# Altium integrated library Infineon_Power_Smart_Low-Side_&_High-Side_Switches.IntLib: 238 symbols (part 11 of 14)
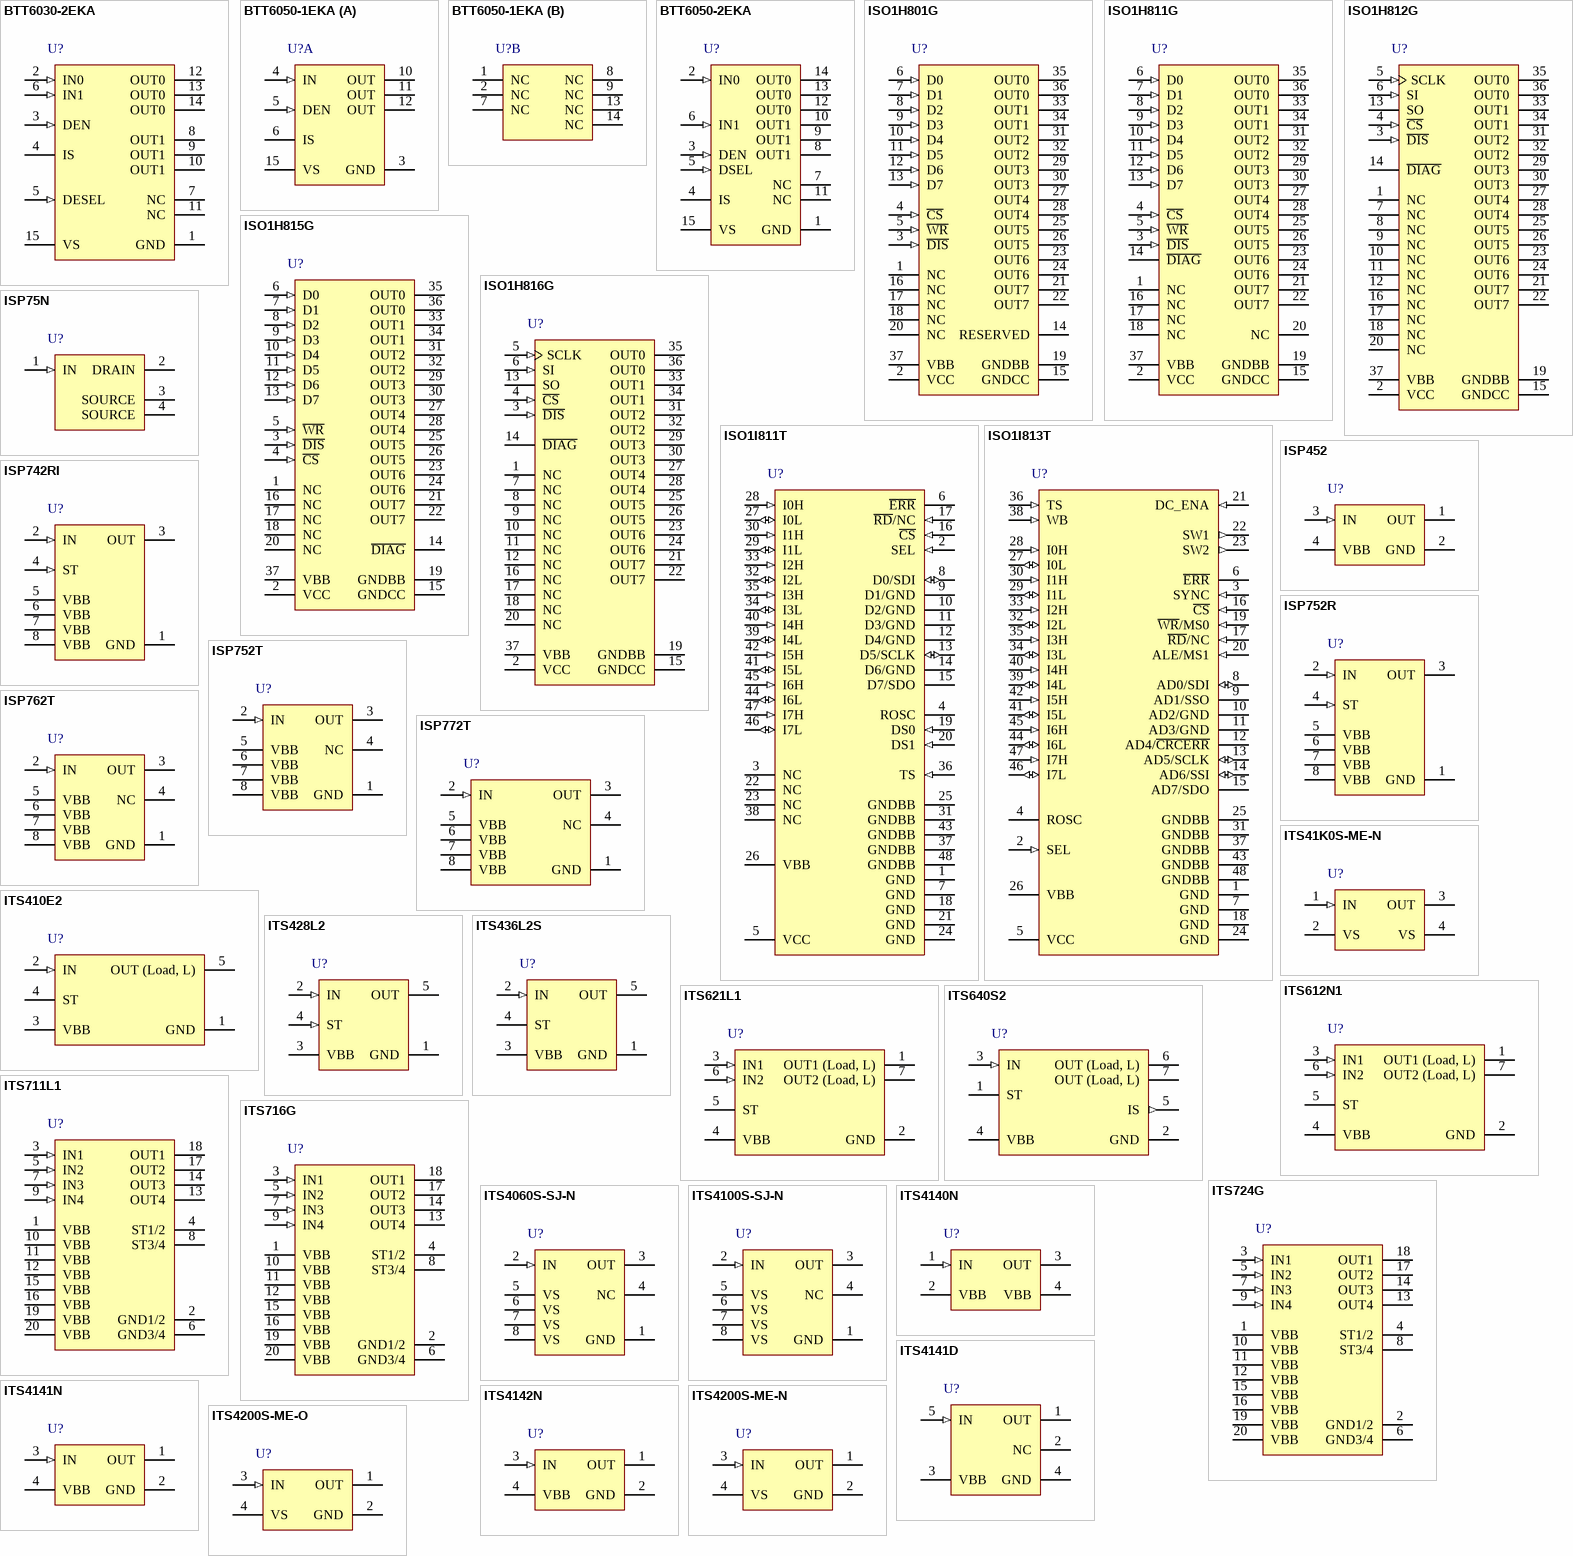
[diagram p17: symbols BTT6030-2EKA to ITS4200S-ME-O]

## ITS711L1
designator U?
Smart Four Channel HighSide Power Switch for Industrial Applications, 5 to 34 V Operating, -30 to 85 degC, PG-DSO-20-31, Reel, Green; Manufacturer: Infineon; PartNumber: ITS711L1; Channels: 4; Diagnostic: Digital; Green: TRUE; IL (nom)min - all channels active: 1.1 A; IL (nom)min - one channel active: 1.7 A; IL (SC): 75 A; Operating Voltage Range (max): 34 V; Operating Voltage Range (min): 5 V; Ptot (max): 3.6 W; RON (max) @ Tj max: 400 mOhm; RON @ 25 degC: 200 mOhm (max); toff (max): 400 us; DatasheetVersion: Rev. 1.3; PackageVersion: Jan-12; PackageReference: PG-DSO-20-31; PackageDescription: 20-Pin Plastic (Green) Dual Small Outline Package, 12.7 x 7.5 mm Body, 1.27 mm Pitch; Supplier 1: Mouser; Supplier Part Number 1: 726-ITS711L1; Supplier 2: Newark; Supplier Part Number 2: 58M7539; Supplier 3: Farnell; Supplier Part Number 3: 1426202RL; Supplier 4: Farnell; Supplier Part Number 4: 1426202; Supplier 5: Digi-Key; Supplier Part Number 5: ITS711L1TR-ND; Supplier 6: Digi-Key; Supplier Part Number 6: ITS711L1CT-ND; Supplier 7: Digi-Key; Supplier Part Number 7: ITS711L1DKR-ND; Halogen-free: available; IL (SCp): 75 A; Load Current (typ): 1.1 A; Packing: Reel; ton (max): 400 us; Mounting Technology: Surface Mount; ComponentLink1Description: Manufacturer URL; ComponentLink1URL: http://www.infineon.com/; ComponentLink2Description: Datasheet; ComponentLink2URL: http://www.infineon.com/dgdl/ITS711L1_DS13.pdf?folderId=db3a304314dca389011537739e37155f&fileId=db3a30432239cccd0122e560bae03c62; ComponentLink3Description: Package Specification; ComponentLink3URL: http://www.infineon.com/dgdl/BTS711L1_DS13.pdf?folderId=db3a304314dca389011537739e37155f&fileId=db3a30432239cccd0122e55f98d43c5f&sId=db3a30433d68e984013d81ad4c8d73f2
footprint INF-PG-DSO-20-31_N (SOP, 20-Leads, Body 12.7x7.5mm, Pitch 1.27mm, IPC High Density)
footprint INF-PG-DSO-20-31_L (SOP, 20-Leads, Body 12.7x7.5mm, Pitch 1.27mm, IPC High Density)
footprint INF-PG-DSO-20-31_M (SOP, 20-Leads, Body 12.7x7.5mm, Pitch 1.27mm, IPC Low Density)
pins: 1 VBB (power) "Positive power supply voltage.Design the wiring for the simultaneous max. short circuit currents from channel 1 to 4 and also for low thermal resistance", 2 GND1/2 (power) "Ground 1/2 of chip 1 (channel 1 and channel 2)", 3 IN1 (in) "Input 1,activates channel 1 in case of logic high signal", 4 ST1/2 (oc) "Diagnostic feedback 1/2 of channel 1 and channel 2, open drain,low on failure", 5 IN2 (in) "Input 2,activates channel 2 in case of logic high signal", 6 GND3/4 (power) "Ground 3/4 of chip 2 (channel 3 and channel 4)", 7 IN3 (in) "Input 3,activates channel 3 in case of logic high signal", 8 ST3/4 (oc) "Diagnostic feedback 3/4 of channel 3 and channel 4, open drain, low on failure", 9 IN4 (in) "Input 4,activates channel 4 in case of logic high signal", 10 VBB (power) "Positive power supply voltage.Design the wiring for the simultaneous max. short circuit currents from channel 1 to 4 and also for low thermal resistance", 11 VBB (power) "Positive power supply voltage.Design the wiring for the simultaneous max. short circuit currents from channel 1 to 4 and also for low thermal resistance", 12 VBB (power) "Positive power supply voltage.Design the wiring for the simultaneous max. short circuit currents from channel 1 to 4 and also for low thermal resistance", 13 OUT4 (power) "Output 4,protected high-side power output of channel 4. Design the wiring for the max. short circuit current", 14 OUT3 (power) "Output 3,protected high-side power output of channel 3. Design the wiring for the max. short circuit current", 15 VBB (power) "Positive power supply voltage.Design the wiring for the simultaneous max. short circuit currents from channel 1 to 4 and also for low thermal resistance", 16 VBB (power) "Positive power supply voltage.Design the wiring for the simultaneous max. short circuit currents from channel 1 to 4 and also for low thermal resistance", 17 OUT2 (power) "Output 2,protected high-side power output of channel 2. Design the wiring for the max. short circuit current", 18 OUT1 (power) "Output 1,protected high-side power output of channel 1. Design the wiring for the max. short circuit current", 19 VBB (power) "Positive power supply voltage.Design the wiring for the simultaneous max. short circuit currents from channel 1 to 4 and also for low thermal resistance", 20 VBB (power) "Positive power supply voltage.Design the wiring for the simultaneous max. short circuit currents from channel 1 to 4 and also for low thermal resistance"

## ITS716G
designator U?
Smart High-Side Power Switch for Industrial Applications 4 Channels: 4 x 140 mOhm Status Feedback, 5.5 to 40 V Operating, -30 to 85 degC, PG-DSO-20-32, Reel, Green; Manufacturer: Infineon; PartNumber: ITS716G; Channels: 4; Diagnostic: Digital; Green: TRUE; IL (nom)min - all channels active: 1.3 A; IL (nom)min - one channel active: 2.3 A; IL (SC): 9 A; Operating Voltage Range (max): 40 V; Operating Voltage Range (min): 5.5 V; Ptot (max): 3.6 W; RON (max) @ Tj max: 280 mOhm; RON @ 25 degC: 140 mOhm (max); toff (max): 270 us; ton (max): 250 us; DatasheetVersion: Rev. 1.1; PackageVersion: Mar-08; PackageReference: PG-DSO-20-32; PackageDescription: 20-Pin Plastic (Green) Dual Small Outline Package, 12.7 x 7.5 mm Body, 1.27 mm Pitch; Supplier 1: Mouser; Supplier Part Number 1: 726-ITS716G; Supplier 2: Newark; Supplier Part Number 2: 58M7540; Supplier 3: Farnell; Supplier Part Number 3: 1426203; Supplier 4: Farnell; Supplier Part Number 4: 1426203RL; Supplier 5: Digi-Key; Supplier Part Number 5: ITS716GTR-ND; Supplier 6: Digi-Key; Supplier Part Number 6: ITS716GCT-ND; Supplier 7: Digi-Key; Supplier Part Number 7: ITS716GDKR-ND; Halogen-free: available; IL (SCp): 9 A; Load Current (typ): 1.3 A; Packing: Reel; Mounting Technology: Surface Mount; ComponentLink1Description: Manufacturer URL; ComponentLink1URL: http://www.infineon.com/; ComponentLink2Description: Datasheet; ComponentLink2URL: http://www.infineon.com/dgdl/ITS716G_DS11_20081002.pdf?folderId=db3a304412b407950112b408e8c90004&fileId=db3a304412b407950112b428c2cf3e6d; ComponentLink3Description: Package Specification; ComponentLink3URL: http://www.infineon.com/dgdl/BTS+4130QGA_DS10+_neu.pdf?folderId=db3a304314dca389011537739e37155f&fileId=db3a30431a5c32f2011a957932285680&sId=db3a30433d68e984013d7f42d6576278
footprint INF-PG-DSO-20-32_N (SOP, 20-Leads, Body 12.7x7.5mm, Pitch 1.27mm, IPC Medium Density)
footprint INF-PG-DSO-20-32_L (SOP, 20-Leads, Body 12.7x7.5mm, Pitch 1.27mm, IPC High Density)
footprint INF-PG-DSO-20-32_M (SOP, 20-Leads, Body 12.7x7.5mm, Pitch 1.27mm, IPC Low Density)
pins: 1 VBB (power) "Positive power supply voltage. Design the wiring for the simultaneous max. short circuit currents from channel 1 to 2 and also for low thermal resistance", 2 GND1/2 (power) "Ground of chip 1 (channel 1,2)", 3 IN1 (in) "Input 1 activates channel 1 in case of logic high signal", 4 ST1/2 (oc) "Diagnostic feedback 1/2 of channel 1,2 open drain, low on failure", 5 IN2 (in) "Input 2 activates channel 2 in case of logic high signal", 6 GND3/4 (power) "Ground of chip 2 (channel 3,4)", 7 IN3 (in) "Input 3 activates channel 3 in case of logic high signal", 8 ST3/4 (oc) "Diagnostic feedback 3/4 of channel 3,4 open drain, low on failure", 9 IN4 (in) "Input 4 activates channel 4 in case of logic high signal", 10 VBB (power) "Positive power supply voltage. Design the wiring for the simultaneous max. short circuit currents from channel 1 to 2 and also for low thermal resistance", 11 VBB (power) "Positive power supply voltage. Design the wiring for the simultaneous max. short circuit currents from channel 1 to 2 and also for low thermal resistance", 12 VBB (power) "Positive power supply voltage. Design the wiring for the simultaneous max. short circuit currents from channel 1 to 2 and also for low thermal resistance", 13 OUT4 (power) "Output 4 protected high-side power output of channel 4. Design the wiring for the max. short circuit current", 14 OUT3 (power) "Output 3 protected high-side power output of channel 3. Design the wiring for the max. short circuit current", 15 VBB (power) "Positive power supply voltage. Design the wiring for the simultaneous max. short circuit currents from channel 1 to 2 and also for low thermal resistance", 16 VBB (power) "Positive power supply voltage. Design the wiring for the simultaneous max. short circuit currents from channel 1 to 2 and also for low thermal resistance", 17 OUT2 (power) "Output 2 protected high-side power output of channel 2. Design the wiring for the max. short circuit current", 18 OUT1 (power) "Output 1 protected high-side power output of channel 1. Design the wiring for the max. short circuit current", 19 VBB (power) "Positive power supply voltage. Design the wiring for the simultaneous max. short circuit currents from channel 1 to 2 and also for low thermal resistance", 20 VBB (power) "Positive power supply voltage. Design the wiring for the simultaneous max. short circuit currents from channel 1 to 2 and also for low thermal resistance"

## ITS724G
designator U?
Smart High-Side Power Switch for Industrial Applications 4 Channels: 4 x 90 mOhm Status Feedback, 5.5 to 40 V Operating, -30 to 85 degC, PG-DSO-20-32, Reel, Green; Manufacturer: Infineon; PartNumber: ITS724G; Channels: 4; Diagnostic: Digital; Green: TRUE; IL (nom)min - all channels active: 3 A; IL (SC): 15 A; Operating Voltage Range (max): 40 V; Operating Voltage Range (min): 5.5 V; Ptot (max): 3.6 W; RON (max) @ Tj max: 180 mOhm; RON @ 25 degC: 90 mOhm (max); toff (max): 270 us; ton (max): 250 us; DatasheetVersion: Rev. 1.1; PackageVersion: Mar-08; PackageReference: PG-DSO-20-32; PackageDescription: 20-Pin Plastic (Green) Dual Small Outline Package, 12.7 x 7.5 mm Body, 1.27 mm Pitch; Supplier 1: Mouser; Supplier Part Number 1: 726-ITS724G; Supplier 2: Newark; Supplier Part Number 2: 47W3492; Supplier 3: Farnell; Supplier Part Number 3: 2215506; Supplier 4: Digi-Key; Supplier Part Number 4: ITS724GTR-ND; Supplier 5: Digi-Key; Supplier Part Number 5: ITS724GCT-ND; Supplier 6: Digi-Key; Supplier Part Number 6: ITS724GDKR-ND; Halogen-free: available; IL (nom)min - one channel active: 3 A; IL (SCp): 15 A; Load Current (typ): 3 A; Packing: Reel; Mounting Technology: Surface Mount; ComponentLink1Description: Manufacturer URL; ComponentLink1URL: http://www.infineon.com/; ComponentLink2Description: Datasheet; ComponentLink2URL: http://www.infineon.com/dgdl/ITS724G_DS11_20081007.pdf?folderId=db3a304412b407950112b408e8c90004&fileId=db3a304412b407950112b428d6083e90; ComponentLink3Description: Package Specification; ComponentLink3URL: http://www.infineon.com/dgdl/BTS+4130QGA_DS10+_neu.pdf?folderId=db3a304314dca389011537739e37155f&fileId=db3a30431a5c32f2011a957932285680&sId=db3a30433d68e984013d7f42d6576278
footprint INF-PG-DSO-20-32_N (SOP, 20-Leads, Body 12.7x7.5mm, Pitch 1.27mm, IPC Medium Density)
footprint INF-PG-DSO-20-32_L (SOP, 20-Leads, Body 12.7x7.5mm, Pitch 1.27mm, IPC High Density)
footprint INF-PG-DSO-20-32_M (SOP, 20-Leads, Body 12.7x7.5mm, Pitch 1.27mm, IPC Low Density)
pins: 1 VBB (power) "Positive power supply voltage.Design the wiring for the simultaneous max. short circuit currents from channel 1 to 4 and also for low thermal resistance", 2 GND1/2 (power) "Ground 1/2 of chip 1 (channel 1 and channel 2)", 3 IN1 (in) "Input 1,activates channel 1 in case of logic high signal", 4 ST1/2 (oc) "Diagnostic feedback 1/2 of channel 1 and channel 2, open drain,low on failure", 5 IN2 (in) "Input 2,activates channel 2 in case of logic high signal", 6 GND3/4 (power) "Ground 3/4 of chip 2 (channel 3 and channel 4)", 7 IN3 (in) "Input 3,activates channel 3 in case of logic high signal", 8 ST3/4 (oc) "Diagnostic feedback 3/4 of channel 3 and channel 4, open drain, low on failure", 9 IN4 (in) "Input 4,activates channel 4 in case of logic high signal", 10 VBB (power) "Positive power supply voltage.Design the wiring for the simultaneous max. short circuit currents from channel 1 to 4 and also for low thermal resistance", 11 VBB (power) "Positive power supply voltage.Design the wiring for the simultaneous max. short circuit currents from channel 1 to 4 and also for low thermal resistance", 12 VBB (power) "Positive power supply voltage.Design the wiring for the simultaneous max. short circuit currents from channel 1 to 4 and also for low thermal resistance", 13 OUT4 (power) "Output 4,protected high-side power output of channel 4. Design the wiring for the max. short circuit current", 14 OUT3 (power) "Output 3,protected high-side power output of channel 3. Design the wiring for the max. short circuit current", 15 VBB (power) "Positive power supply voltage.Design the wiring for the simultaneous max. short circuit currents from channel 1 to 4 and also for low thermal resistance", 16 VBB (power) "Positive power supply voltage.Design the wiring for the simultaneous max. short circuit currents from channel 1 to 4 and also for low thermal resistance", 17 OUT2 (power) "Output 2,protected high-side power output of channel 2. Design the wiring for the max. short circuit current", 18 OUT1 (power) "Output 1,protected high-side power output of channel 1. Design the wiring for the max. short circuit current", 19 VBB (power) "Positive power supply voltage.Design the wiring for the simultaneous max. short circuit currents from channel 1 to 4 and also for low thermal resistance", 20 VBB (power) "Positive power supply voltage.Design the wiring for the simultaneous max. short circuit currents from channel 1 to 4 and also for low thermal resistance"

## ITS4060S-SJ-N
designator U?
Smart High-Side NMOS-Power Switch, 5 to 34 V Operating, -40 to 125 degC, PG-DSO-8-3, Reel, Green; Manufacturer: Infineon; PartNumber: ITS4060S-SJ-N; Channels: 1; Green: TRUE; IL (nom)min - all channels active: 2.6 A; IL (SC): 17 A; Load Current (typ): 3.1 A; Operating Voltage Range (max): 34 V; Operating Voltage Range (min): 5 V; Ptot (max): 1.5 W; RON (max) @ Tj max: 120 mOhm; RON @ 25 degC: 60 mOhm (max); toff (max): 230 us; ton (max): 180 us; DatasheetVersion: Rev. 1.0; PackageReference: PG-DSO-8-3; PackageDescription: 8-Pin Plastic (Green) Dual Small Outline Package, 4.9 x 3.9 mm Body, 1.27 mm Pitch; Halogen-free: TRUE; IL (nom)min - one channel active: 2.6 A; IL (SCp): 17 A; Packing: Reel; Mounting Technology: Surface Mount; ComponentLink1Description: Manufacturer URL; ComponentLink1URL: http://www.infineon.com/; ComponentLink2Description: Datasheet; ComponentLink2URL: http://www.infineon.com/dgdl/ITS4060S-SJ-N_01092012S.pdf?folderId=db3a304412b407950112b408e8c90004&fileId=db3a304339dcf4b1013a0137d230573b; ComponentLink3Description: Package Specification; ComponentLink3URL: http://www.infineon.com/cms/packages/SMD_-_Surface_Mounted_Devices/P-PG-DSO/P-PG-DSO-08-03x_-6x_-7x_-8x_-10x_-13x_-15x_-18x_-19x_-20x_-23.html?__locale=en
footprint INF-PG-DSO-8-3_N (SOP, 8-Leads, Body 4.9x3.9mm, Pitch 1.27mm, IPC Medium Density)
footprint INF-PG-DSO-8-3_L (SOP, 8-Leads, Body 4.9x3.9mm, Pitch 1.27mm, IPC High Density)
footprint INF-PG-DSO-8-3_M (SOP, 8-Leads, Body 4.9x3.9mm, Pitch 1.27mm, IPC Low Density)
pins: 1 GND (power) "Logic ground", 2 IN (in) "Input, controles the power switch; the powerswitch is ON when high", 3 OUT (power) "Output to the load", 4 NC "Not connected", 5 VS (power) "Supply voltage (design the wiring for the maximum short circuit current and also for low thermal resistance)", 6 VS (power) "Supply voltage (design the wiring for the maximum short circuit current and also for low thermal resistance)", 7 VS (power) "Supply voltage (design the wiring for the maximum short circuit current and also for low thermal resistance)", 8 VS (power) "Supply voltage (design the wiring for the maximum short circuit current and also for low thermal resistance)"

## ITS4100S-SJ-N
designator U?
Smart High-Side NMOS-Power Switch, 5 to 34 V Operating, -40 to 125 degC, PG-DSO-8-3, Reel, Green; Manufacturer: Infineon; PartNumber: ITS4100S-SJ-N; Channels: 1; Green: TRUE; IL (nom)min - all channels active: 2 A; IL (SC): 10 A; Load Current (typ): 2.4 A; Operating Voltage Range (max): 34 V; Operating Voltage Range (min): 5 V; Ptot (max): 1.5 W; RON (max) @ Tj max: 200 mOhm; RON @ 25 degC: 100 mOhm (max); toff (max): 230 us; ton (max): 170 us; DatasheetVersion: Rev. 1.0; PackageReference: PG-DSO-8-3; PackageDescription: 8-Pin Plastic (Green) Dual Small Outline Package, 4.9 x 3.9 mm Body, 1.27 mm Pitch; Halogen-free: TRUE; IL (nom)min - one channel active: 2 A; IL (SCp): 10 A; Packing: Reel; Mounting Technology: Surface Mount; ComponentLink1Description: Manufacturer URL; ComponentLink1URL: http://www.infineon.com/; ComponentLink2Description: Datasheet; ComponentLink2URL: http://www.infineon.com/dgdl/ITS4100S-SJ-N_01092012S.pdf?folderId=db3a304412b407950112b408e8c90004&fileId=db3a304339dcf4b1013a013c573f573c; ComponentLink3Description: Package Specification; ComponentLink3URL: http://www.infineon.com/cms/packages/SMD_-_Surface_Mounted_Devices/P-PG-DSO/P-PG-DSO-08-03x_-6x_-7x_-8x_-10x_-13x_-15x_-18x_-19x_-20x_-23.html?__locale=en
footprint INF-PG-DSO-8-3_N (SOP, 8-Leads, Body 4.9x3.9mm, Pitch 1.27mm, IPC Medium Density)
footprint INF-PG-DSO-8-3_L (SOP, 8-Leads, Body 4.9x3.9mm, Pitch 1.27mm, IPC High Density)
footprint INF-PG-DSO-8-3_M (SOP, 8-Leads, Body 4.9x3.9mm, Pitch 1.27mm, IPC Low Density)
pins: 1 GND (power) "Logic ground", 2 IN (in) "Input, controles the power switch; the powerswitch is ON when high", 3 OUT (power) "Output to the load", 4 NC "Not connected", 5 VS (power) "Supply voltage (design the wiring for the maximum short circuit current and also for low thermal resistance)", 6 VS (power) "Supply voltage (design the wiring for the maximum short circuit current and also for low thermal resistance)", 7 VS (power) "Supply voltage (design the wiring for the maximum short circuit current and also for low thermal resistance)", 8 VS (power) "Supply voltage (design the wiring for the maximum short circuit current and also for low thermal resistance)"

## ITS4140N
designator U?
Smart High-Side Power Switch for Industrial Applications 1 Channel: 1 x 1 Ohm, 4.9 to 60 V Operating, -30 to 85 degC, SOT223, Reel, Green; Manufacturer: Infineon; PartNumber: ITS4140N; Channels: 1; Green: TRUE; IL (nom)min - all channels active: 0.9 A; IL (nom)min - one channel active: 0.2 A; Operating Voltage Range (max): 60 V; Operating Voltage Range (min): 4.9 V; Ptot (max): 1.7 W; RON (max) @ Tj max: 3,000 mOhm; RON @ 25 degC: 1,500 mOhm (max); toff (max): 140 us; ton (max): 100 us; DatasheetVersion: Rev. 2.1; PackageVersion: Apr-08; PackageReference: SOT223; PackageDescription: 4-Pin Small Outline Transistor Package, 6.5 x 3.5 mm Body, 2.3 mm Pitch; Supplier 1: Mouser; Supplier Part Number 1: 726-ITS4140N; Supplier 2: Newark; Supplier Part Number 2: 58M7529; Supplier 3: Farnell; Supplier Part Number 3: 1440814; Supplier 4: Farnell; Supplier Part Number 4: 1440814RL; Supplier 5: Digi-Key; Supplier Part Number 5: ITS4140NTR-ND; Supplier 6: Digi-Key; Supplier Part Number 6: ITS4140NCT-ND; Supplier 7: Digi-Key; Supplier Part Number 7: ITS4140NDKR-ND; IL (SC): 0.9 A; IL (SCp): 0.9 A; Load Current (typ): 0.9 A; Packing: Reel; Mounting Technology: Surface Mount; ComponentLink1Description: Manufacturer URL; ComponentLink1URL: http://www.infineon.com/; ComponentLink2Description: Datasheet; ComponentLink2URL: http://www.infineon.com/dgdl/ITS4140N_DS_Rev21.pdf?folderId=db3a304412b407950112b408e8c90004&fileId=db3a304412b407950112b4298dc34130; ComponentLink3Description: Package Specification; ComponentLink3URL: http://www.infineon.com/dgdl/SOT223-Package_Overview.pdf?folderId=db3a30431936bc4b0119530470b03c3d&fileId=db3a30431936bc4b0119531d40b93c5c
footprint INF-SOT223_N (SOT223, 4-Leads, Body 6.5x3.5mm, Pitch 2.3mm, IPC Medium Density)
footprint INF-SOT223_L (SOT223, 4-Leads, Body 6.5x3.5mm, Pitch 2.3mm, IPC High Density)
footprint INF-SOT223_M (SOT223, 4-Leads, Body 6.5x3.5mm, Pitch 2.3mm, IPC Low Density)
pins: 1 IN (in) "Input, activates the power switch in case of connection to GND", 2 VBB (power) "Positive power supply voltage", 3 OUT (power) "Output to the load", 4 VBB (power) "Positive power supply voltage"

## ITS4141D
designator U?
Smart High-Side Power Switch for Industrial Applications 1 Channel: 1 x 200 mOhm, 12 to 45 V Operating, -30 to 85 degC, PG-TO252-5-1, Reel, Green; Manufacturer: Infineon; PartNumber: ITS4141D; Channels: 1; Green: TRUE; IL (nom)min - all channels active: 0.7 A; IL (SC): 2.1 A; Operating Voltage Range (max): 45 V; Operating Voltage Range (min): 12 V; Ptot (max): 1.4 W; RON (max) @ Tj max: 320 mOhm; RON @ 25 degC: 200 mOhm (max); toff (max): 150 us; ton (max): 100 us; PackageReference: PG-TO252-5-1; PackageDescription: 5-Pin Plastic (Green) Transistor Single Outline Package, 6.5 x 6.12 mm Body, 1.14 mm Pitch; Supplier 1: Mouser; Supplier Part Number 1: 726-ITS4141D; Supplier 2: Newark; Supplier Part Number 2: 47W3491; Supplier 3: Farnell; Supplier Part Number 3: 2215507; Supplier 4: Digi-Key; Supplier Part Number 4: ITS4141DTR-ND; Supplier 5: Digi-Key; Supplier Part Number 5: ITS4141DCT-ND; Supplier 6: Digi-Key; Supplier Part Number 6: ITS4141DDKR-ND; IL (nom)min - one channel active: 0.7 A; IL (SCp): 2.1 A; Load Current (typ): 0.7 A; Packing: Reel; Mounting Technology: Surface Mount; ComponentLink1Description: Manufacturer URL; ComponentLink1URL: http://www.infineon.com/; ComponentLink2Description: Datasheet; ComponentLink2URL: http://www.infineon.com/dgdl/ITS4141D_20060322.pdf?folderId=db3a304412b407950112b408e8c90004&fileId=db3a304412b407950112b42967d340dd; ComponentLink3Description: Package Specification; ComponentLink3URL: http://www.infineon.com/cms/packages/SMD_-_Surface_Mounted_Devices/P-PG-TO252/P-PG-TO252-05-001.html?__locale=en
footprint INF-PG-TO252-5-1_N (DPAK, 5-Leads, Body 6.5x6.12mm, Pitch 1.14mm, IPC Medium Density)
footprint INF-PG-TO252-5-1_L (DPAK, 5-Leads, Body 6.5x6.12mm, Pitch 1.14mm, IPC High Density)
footprint INF-PG-TO252-5-1_M (DPAK, 5-Leads, Body 6.5x6.12mm, Pitch 1.14mm, IPC Low Density)
pins: 1 OUT (power) "Output to the load", 2 NC "not connected", 3 VBB (power) "Positive power supply voltage", 4 GND (power) "Logic ground", 5 IN (in) "Input, activates the power switch in case of logic high signal"

## ITS4141N
designator U?
Smart High-Side Power Switch for Industrial Applications 1 Channel: 1 x 200 mOhm, 12 to 45 V Operating, -30 to 85 degC, SOT223, Reel, Green; Manufacturer: Infineon; PartNumber: ITS4141N; Channels: 1; Green: TRUE; IL (nom)min - all channels active: 0.7 A; IL (SC): 2.1 A; IL (SCp): 1.4 A; Operating Voltage Range (max): 45 V; Operating Voltage Range (min): 12 V; Ptot (max): 1.4 W; RON (max) @ Tj max: 320 mOhm; RON @ 25 degC: 200 mOhm (max); toff (max): 150 us; ton (max): 100 us; PackageVersion: Apr-08; PackageReference: SOT223; PackageDescription: 4-Pin Small Outline Transistor Package, 6.5 x 3.5 mm Body, 2.3 mm Pitch; Supplier 1: Mouser; Supplier Part Number 1: 726-ITS4141N; Supplier 2: Newark; Supplier Part Number 2: 58M7530; Supplier 3: Farnell; Supplier Part Number 3: 1440815RL; Supplier 4: Farnell; Supplier Part Number 4: 1440815; Supplier 5: Digi-Key; Supplier Part Number 5: ITS4141NTR-ND; Supplier 6: Digi-Key; Supplier Part Number 6: ITS4141NCT-ND; Supplier 7: Digi-Key; Supplier Part Number 7: ITS4141NDKR-ND; IL (nom)min - one channel active: 0.7 A; Load Current (typ): 0.7 A; Packing: Reel; Mounting Technology: Surface Mount; ComponentLink1Description: Manufacturer URL; ComponentLink1URL: http://www.infineon.com/; ComponentLink2Description: Datasheet; ComponentLink2URL: http://www.infineon.com/dgdl/ITS4141N_20060309.pdf?folderId=db3a304412b407950112b408e8c90004&fileId=db3a304412b407950112b429624b40d3; ComponentLink3Description: Package Specification; ComponentLink3URL: http://www.infineon.com/dgdl/SOT223-Package_Overview.pdf?folderId=db3a30431936bc4b0119530470b03c3d&fileId=db3a30431936bc4b0119531d40b93c5c
footprint INF-SOT223_N (SOT223, 4-Leads, Body 6.5x3.5mm, Pitch 2.3mm, IPC Medium Density)
footprint INF-SOT223_L (SOT223, 4-Leads, Body 6.5x3.5mm, Pitch 2.3mm, IPC High Density)
footprint INF-SOT223_M (SOT223, 4-Leads, Body 6.5x3.5mm, Pitch 2.3mm, IPC Low Density)
pins: 1 OUT (power) "Output to the load", 2 GND (power) "Logic ground", 3 IN (in) "Input, activates the power switch in case of logic high signal", 4 VBB (power) "Positive power supply voltage"

## ITS4142N
designator U?
Smart High-Side Power Switch for Industrial Applications 1 Channel: 1 x 200 mOhm, 12 to 45 V Operating, -30 to 85 degC, SOT223, Reel, Green; Manufacturer: Infineon; PartNumber: ITS4142N; Channels: 1; Green: TRUE; IL (nom)min - all channels active: 1.4 A; IL (SC): 3 A; IL (SCp): 4.5 A; Operating Voltage Range (max): 45 V; Operating Voltage Range (min): 12 V; Ptot (max): 1.4 W; RON (max) @ Tj max: 320 mOhm; RON @ 25 degC: 200 mOhm (max); toff (max): 150 us; ton (max): 100 us; PackageVersion: Apr-08; PackageReference: SOT223; PackageDescription: 4-Pin Small Outline Transistor Package, 6.5 x 3.5 mm Body, 2.3 mm Pitch; Supplier 1: Mouser; Supplier Part Number 1: 726-ITS4142N; Supplier 2: Newark; Supplier Part Number 2: 58M7531; Supplier 3: Farnell; Supplier Part Number 3: 1440816RL; Supplier 4: Farnell; Supplier Part Number 4: 1440816; Supplier 5: Digi-Key; Supplier Part Number 5: ITS4142NTR-ND; Supplier 6: Digi-Key; Supplier Part Number 6: ITS4142NCT-ND; Supplier 7: Digi-Key; Supplier Part Number 7: ITS4142NDKR-ND; IL (nom)min - one channel active: 1.4 A; Load Current (typ): 1.4 A; Packing: Reel; Mounting Technology: Surface Mount; ComponentLink1Description: Manufacturer URL; ComponentLink1URL: http://www.infineon.com/; ComponentLink2Description: Datasheet; ComponentLink2URL: http://www.infineon.com/dgdl/ITS4142N_20060309.pdf?folderId=db3a304412b407950112b408e8c90004&fileId=db3a304412b407950112b4296b0840e1; ComponentLink3Description: Package Specification; ComponentLink3URL: http://www.infineon.com/dgdl/SOT223-Package_Overview.pdf?folderId=db3a30431936bc4b0119530470b03c3d&fileId=db3a30431936bc4b0119531d40b93c5c
footprint INF-SOT223_N (SOT223, 4-Leads, Body 6.5x3.5mm, Pitch 2.3mm, IPC Medium Density)
footprint INF-SOT223_L (SOT223, 4-Leads, Body 6.5x3.5mm, Pitch 2.3mm, IPC High Density)
footprint INF-SOT223_M (SOT223, 4-Leads, Body 6.5x3.5mm, Pitch 2.3mm, IPC Low Density)
pins: 1 OUT (power) "Output to the load", 2 GND (power) "Logic ground", 3 IN (in) "Input, activates the power switch in case of logic high signal", 4 VBB (power) "Positive power supply voltage"

## ITS4200S-ME-N
designator U?
Smart High-Side NMOS-Power Switch, 5 to 34 V Operating, -40 to 125 degC, SOT223, Reel, Green; Manufacturer: Infineon; PartNumber: ITS4200S-ME-N; Channels: 1; Green: TRUE; IL (nom)min - all channels active: 0.7 A; IL (SC): 1.5 A; Operating Voltage Range (max): 34 V; Operating Voltage Range (min): 5 V; Ptot (max): 1.4 W; RON (max) @ Tj max: 400 mOhm; RON @ 25 degC: 200 mOhm (max); toff (max): 150 us; ton (max): 100 us; DatasheetVersion: Rev. 1.0; PackageVersion: Apr-08; PackageReference: SOT223; PackageDescription: 4-Pin Small Outline Transistor Package, 6.5 x 3.5 mm Body, 2.3 mm Pitch; IL (nom)min - one channel active: 0.7 A; IL (SCp): 1.5 A; Load Current (typ): 0.7 A; Packing: Reel; Mounting Technology: Surface Mount; ComponentLink1Description: Manufacturer URL; ComponentLink1URL: http://www.infineon.com/; ComponentLink2Description: Datasheet; ComponentLink2URL: http://www.infineon.com/dgdl/ITS4200S-ME-N_01092012S.pdf?folderId=db3a304412b407950112b408e8c90004&fileId=db3a304339dcf4b1013a013ee841573f; ComponentLink3Description: Package Specification; ComponentLink3URL: http://www.infineon.com/dgdl/SOT223-Package_Overview.pdf?folderId=db3a30431936bc4b0119530470b03c3d&fileId=db3a30431936bc4b0119531d40b93c5c
footprint INF-SOT223_N (SOT223, 4-Leads, Body 6.5x3.5mm, Pitch 2.3mm, IPC Medium Density)
footprint INF-SOT223_L (SOT223, 4-Leads, Body 6.5x3.5mm, Pitch 2.3mm, IPC High Density)
footprint INF-SOT223_M (SOT223, 4-Leads, Body 6.5x3.5mm, Pitch 2.3mm, IPC Low Density)
pins: 1 OUT (power) "Output to the load", 2 GND (power) "Logic ground", 3 IN (in) "Input, controles the power switch; the powerswitch is ON when high", 4 VS (power) "Supply voltage (design the wiring for the maximum short circuit current and also for low thermal resistance)"

## ITS4200S-ME-O
designator U?
Smart High-Side NMOS-Power Switch, 11 to 45 V Operating, -40 to 125 degC, SOT223, Reel, Green; Manufacturer: Infineon; PartNumber: ITS4200S-ME-O; Channels: 1; Green: TRUE; IL (nom)min - all channels active: 0.7 A; IL (SC): 1.1 A; IL (SCp): 1.4 A; Operating Voltage Range (max): 45 V; Operating Voltage Range (min): 11 V; Ptot (max): 1.4 W; RON (max) @ Tj max: 320 mOhm; RON @ 25 degC: 200 mOhm (max); toff (max): 150 us; ton (max): 100 us; DatasheetVersion: Rev. 1.0; PackageVersion: Apr-08; PackageReference: SOT223; PackageDescription: 4-Pin Small Outline Transistor Package, 6.5 x 3.5 mm Body, 2.3 mm Pitch; IL (nom)min - one channel active: 0.7 A; Load Current (typ): 0.7 A; Packing: Reel; Mounting Technology: Surface Mount; ComponentLink1Description: Manufacturer URL; ComponentLink1URL: http://www.infineon.com/; ComponentLink2Description: Datasheet; ComponentLink2URL: http://www.infineon.com/dgdl/ITS4200S-ME-O_01092012S.pdf?folderId=db3a304412b407950112b408e8c90004&fileId=db3a304339dcf4b1013a013fb7455740; ComponentLink3Description: Package Specification; ComponentLink3URL: http://www.infineon.com/dgdl/SOT223-Package_Overview.pdf?folderId=db3a30431936bc4b0119530470b03c3d&fileId=db3a30431936bc4b0119531d40b93c5c
footprint INF-SOT223_N (SOT223, 4-Leads, Body 6.5x3.5mm, Pitch 2.3mm, IPC Medium Density)
footprint INF-SOT223_L (SOT223, 4-Leads, Body 6.5x3.5mm, Pitch 2.3mm, IPC High Density)
footprint INF-SOT223_M (SOT223, 4-Leads, Body 6.5x3.5mm, Pitch 2.3mm, IPC Low Density)
pins: 1 OUT (power) "Output to the load", 2 GND (power) "Logic ground", 3 IN (in) "Input, controles the power switch; the powerswitch is ON when high", 4 VS (power) "Supply voltage (design the wiring for the maximum short circuit current and also for low thermal resistance)"

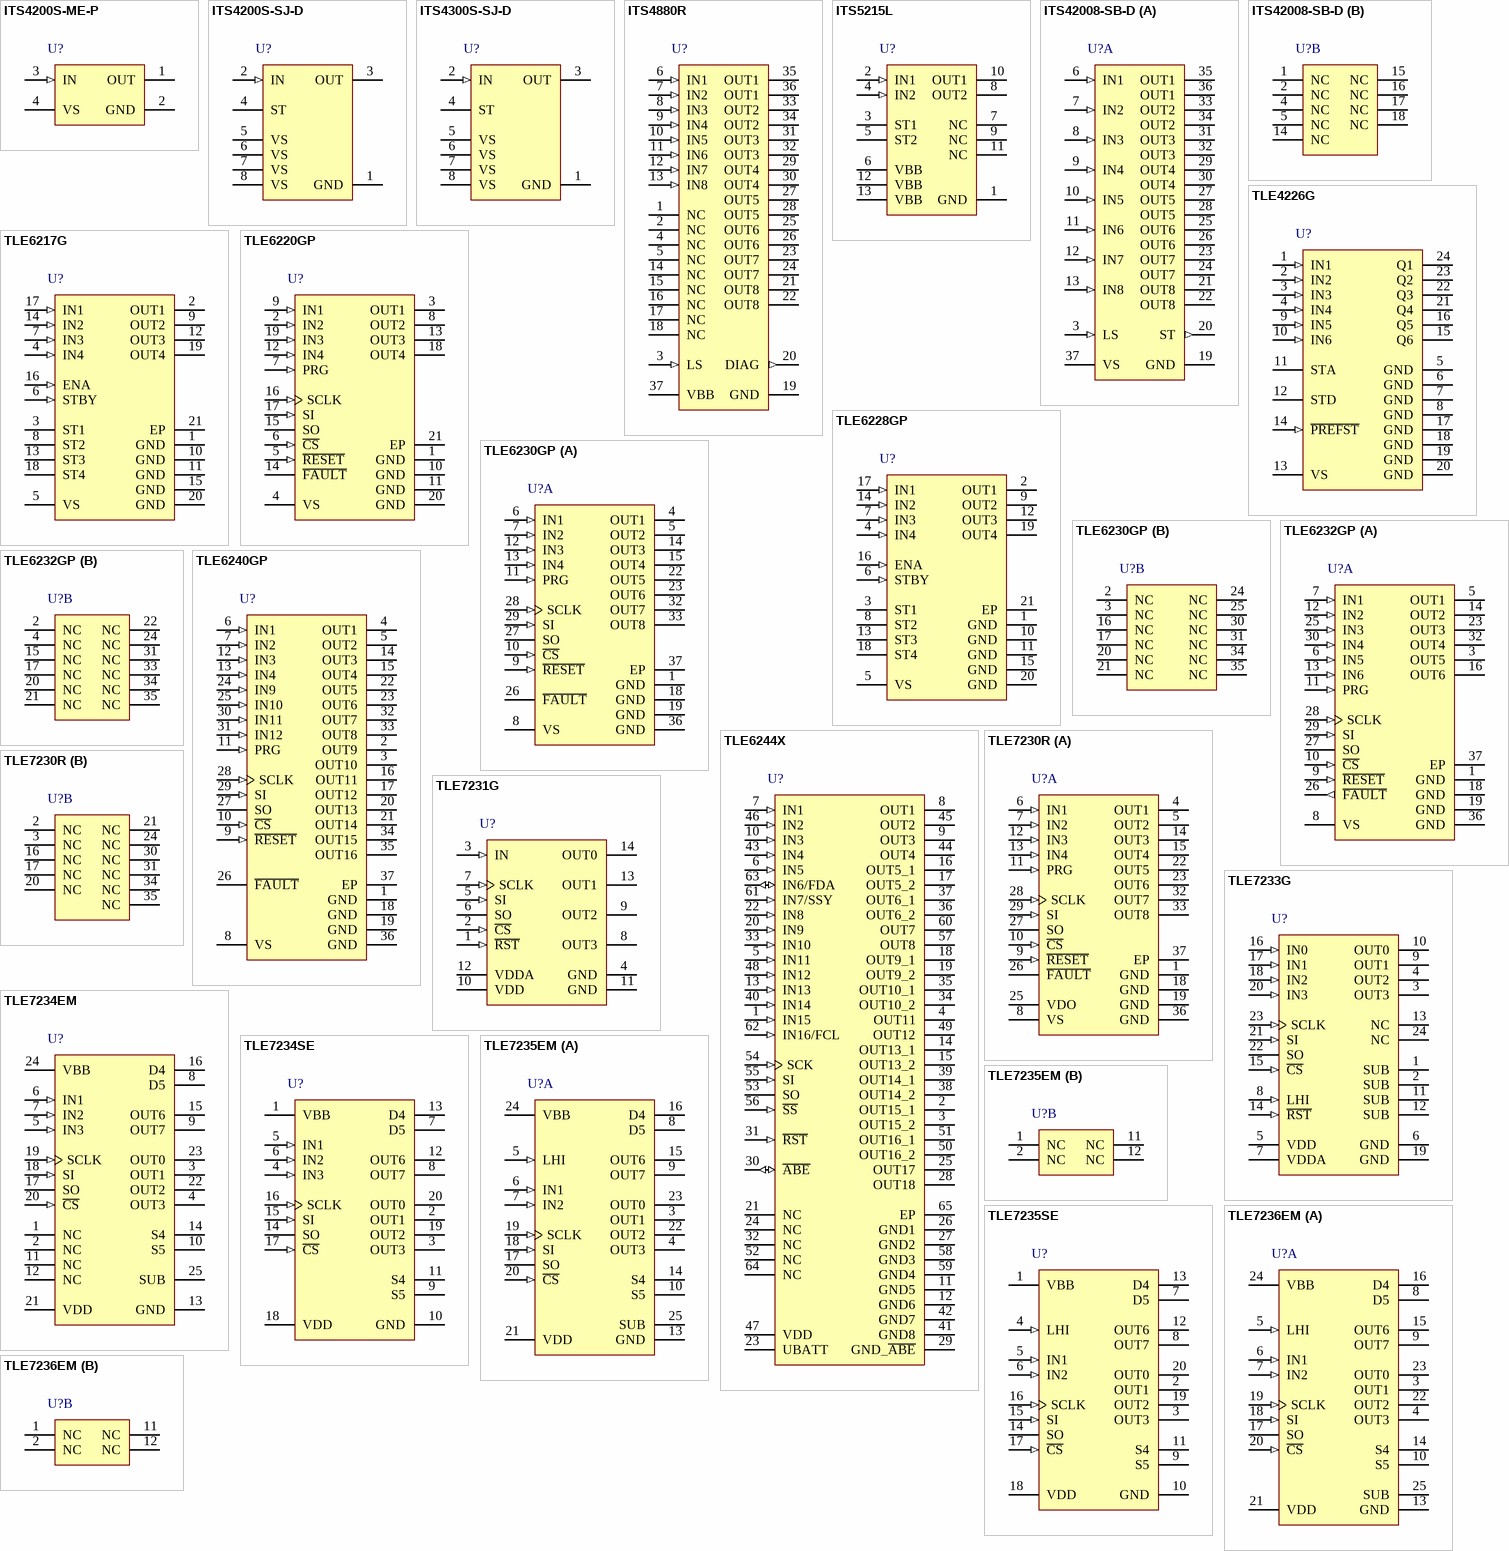
[diagram p6: symbols ITS4200S-ME-P to TLE7236EM]

## ITS4200S-ME-P
designator U?
Smart High-Side NMOS-Power Switch, 11 to 45 V Operating, -40 to 125 degC, SOT223, Reel, Green; Manufacturer: Infineon; PartNumber: ITS4200S-ME-P; Channels: 1; Green: TRUE; IL (nom)min - all channels active: 1.4 A; IL (SC): 2.2 A; IL (SCp): 4.5 A; Operating Voltage Range (max): 45 V; Operating Voltage Range (min): 11 V; Ptot (max): 1.4 W; RON (max) @ Tj max: 320 mOhm; RON @ 25 degC: 200 mOhm (max); toff (max): 150 us; ton (max): 100 us; DatasheetVersion: Rev. 1.0; PackageVersion: Apr-08; PackageReference: SOT223; PackageDescription: 4-Pin Small Outline Transistor Package, 6.5 x 3.5 mm Body, 2.3 mm Pitch; IL (nom)min - one channel active: 1.4 A; Load Current (typ): 1.4 A; Packing: Reel; Mounting Technology: Surface Mount; ComponentLink1Description: Manufacturer URL; ComponentLink1URL: http://www.infineon.com/; ComponentLink2Description: Datasheet; ComponentLink2URL: http://www.infineon.com/dgdl/ITS4200S-ME-P_01092012S.pdf?folderId=db3a304412b407950112b408e8c90004&fileId=db3a304339dcf4b1013a0140684a5741; ComponentLink3Description: Package Specification; ComponentLink3URL: http://www.infineon.com/dgdl/SOT223-Package_Overview.pdf?folderId=db3a30431936bc4b0119530470b03c3d&fileId=db3a30431936bc4b0119531d40b93c5c
footprint INF-SOT223_N (SOT223, 4-Leads, Body 6.5x3.5mm, Pitch 2.3mm, IPC Medium Density)
footprint INF-SOT223_L (SOT223, 4-Leads, Body 6.5x3.5mm, Pitch 2.3mm, IPC High Density)
footprint INF-SOT223_M (SOT223, 4-Leads, Body 6.5x3.5mm, Pitch 2.3mm, IPC Low Density)
pins: 1 OUT (power) "Output to the load", 2 GND (power) "Logic ground", 3 IN (in) "Input, controles the power switch; the powerswitch is ON when high", 4 VS (power) "Supply voltage (design the wiring for the maximum short circuit current and also for low thermal resistance)"

## ITS4200S-SJ-D
designator U?
Smart High-Side NMOS-Power Switch, 6 to 52 V Operating, -40 to 125 degC, PG-DSO-8-3, Reel, Green; Manufacturer: Infineon; PartNumber: ITS4200S-SJ-D; Channels: 1; Diagnostic: Digital; Green: TRUE; IL (nom)min - all channels active: 1.2 A; IL (nom)min - one channel active: 1.3 A; IL (SC): 6 A; IL (SCp): 6.5 A; Operating Voltage Range (max): 52 V; Operating Voltage Range (min): 6 V; Ptot (max): 1.4 W; RON (max) @ Tj max: 350 mOhm; RON @ 25 degC: 200 mOhm (max); toff (max): 200 us; ton (max): 180 us; DatasheetVersion: Rev. 1.0; PackageReference: PG-DSO-8-3; PackageDescription: 8-Pin Plastic (Green) Dual Small Outline Package, 4.9 x 3.9 mm Body, 1.27 mm Pitch; Halogen-free: TRUE; Load Current (typ): 1.2 A; Packing: Reel; Mounting Technology: Surface Mount; ComponentLink1Description: Manufacturer URL; ComponentLink1URL: http://www.infineon.com/; ComponentLink2Description: Datasheet; ComponentLink2URL: http://www.infineon.com/dgdl/ITS4200S-SJ-D_01092012S.pdf?folderId=db3a304412b407950112b408e8c90004&fileId=db3a304339dcf4b1013a0141525f5742; ComponentLink3Description: Package Specification; ComponentLink3URL: http://www.infineon.com/cms/packages/SMD_-_Surface_Mounted_Devices/P-PG-DSO/P-PG-DSO-08-03x_-6x_-7x_-8x_-10x_-13x_-15x_-18x_-19x_-20x_-23.html?__locale=en
footprint INF-PG-DSO-8-3_N (SOP, 8-Leads, Body 4.9x3.9mm, Pitch 1.27mm, IPC Medium Density)
footprint INF-PG-DSO-8-3_L (SOP, 8-Leads, Body 4.9x3.9mm, Pitch 1.27mm, IPC High Density)
footprint INF-PG-DSO-8-3_M (SOP, 8-Leads, Body 4.9x3.9mm, Pitch 1.27mm, IPC Low Density)
pins: 1 GND (power) "Logic ground", 2 IN (in) "Input, controles the power switch; the powerswitch is ON when high", 3 OUT (power) "Output to the load", 4 ST (oc) "Status flag; diagnosis feedback; NMOS open drain", 5 VS (power) "Supply voltage (design the wiring for the maximum short circuit current and also for low thermal resistance)", 6 VS (power) "Supply voltage (design the wiring for the maximum short circuit current and also for low thermal resistance)", 7 VS (power) "Supply voltage (design the wiring for the maximum short circuit current and also for low thermal resistance)", 8 VS (power) "Supply voltage (design the wiring for the maximum short circuit current and also for low thermal resistance)"

## ITS4300S-SJ-D
designator U?
Smart High-Side NMOS-Power Switch, 5 to 34 V Operating, -40 to 125 degC, PG-DSO-8-3, Reel, Green; Manufacturer: Infineon; PartNumber: ITS4300S-SJ-D; Channels: 1; Diagnostic: Digital; Green: TRUE; IL (nom)min - all channels active: 0.4 A; IL (SC): 1 A; IL (SCp): 1.2 A; Operating Voltage Range (max): 34 V; Operating Voltage Range (min): 5 V; Ptot (max): 1.4 W; RON (max) @ Tj max: 600 mOhm; RON @ 25 degC: 400 mOhm (max); toff (max): 170 us; ton (max): 140 us; DatasheetVersion: Rev. 1.0; PackageReference: PG-DSO-8-3; PackageDescription: 8-Pin Plastic (Green) Dual Small Outline Package, 4.9 x 3.9 mm Body, 1.27 mm Pitch; Halogen-free: TRUE; IL (nom)min - one channel active: 0.4 A; Load Current (typ): 0.4 A; Packing: Reel; Mounting Technology: Surface Mount; ComponentLink1Description: Manufacturer URL; ComponentLink1URL: http://www.infineon.com/; ComponentLink2Description: Datasheet; ComponentLink2URL: http://www.infineon.com/dgdl/ITS4300S-SJ-D_01092012S.pdf?folderId=db3a304412b407950112b408e8c90004&fileId=db3a304339dcf4b1013a01424bef5743; ComponentLink3Description: Package Specification; ComponentLink3URL: http://www.infineon.com/cms/packages/SMD_-_Surface_Mounted_Devices/P-PG-DSO/P-PG-DSO-08-03x_-6x_-7x_-8x_-10x_-13x_-15x_-18x_-19x_-20x_-23.html?__locale=en
footprint INF-PG-DSO-8-3_N (SOP, 8-Leads, Body 4.9x3.9mm, Pitch 1.27mm, IPC Medium Density)
footprint INF-PG-DSO-8-3_L (SOP, 8-Leads, Body 4.9x3.9mm, Pitch 1.27mm, IPC High Density)
footprint INF-PG-DSO-8-3_M (SOP, 8-Leads, Body 4.9x3.9mm, Pitch 1.27mm, IPC Low Density)
pins: 1 GND (power) "Logic ground", 2 IN (in) "Input, controles the power switch; the powerswitch is ON when high", 3 OUT (power) "Output to the load", 4 ST (oc) "Status flag; diagnosis feedback; NMOS open drain", 5 VS (power) "Supply voltage (design the wiring for the maximum short circuit current and also for low thermal resistance)", 6 VS (power) "Supply voltage (design the wiring for the maximum short circuit current and also for low thermal resistance)", 7 VS (power) "Supply voltage (design the wiring for the maximum short circuit current and also for low thermal resistance)", 8 VS (power) "Supply voltage (design the wiring for the maximum short circuit current and also for low thermal resistance)"

## ITS4880R
designator U?
Smart Power High-Side-Switch for Industrial Applications 8 Channels: 8 x 200 mOhm, 11 to 45 V Operating, -30 to 85 degC, PG-DSO-36-26, Reel, Green; Manufacturer: Infineon; PartNumber: ITS4880R; Channels: 8; Diagnostic: Digital; Green: TRUE; IL (nom)min - one channel active: 1.4 A; IL (SC): 3 A; Operating Voltage Range (max): 45 V; Operating Voltage Range (min): 11 V; Ptot (max): 3.3 W; RON (max) @ Tj max: 320 mOhm; RON @ 25 degC: 200 mOhm (max); toff (max): 150 us; ton (max): 100 us; DatasheetVersion: Rev. 1.1; PackageVersion: Aug-09; PackageReference: PG-DSO-36-26; PackageDescription: 36-Pin Plastic (Green) Dual Small Outline Package, 15.9 x 11 mm Body, 0.65 mm Pitch; Supplier 1: Mouser; Supplier Part Number 1: 726-ITS4880R; Supplier 2: Newark; Supplier Part Number 2: 58M7534; Supplier 3: Farnell; Supplier Part Number 3: 1440818RL; Supplier 4: Farnell; Supplier Part Number 4: 1440818; Supplier 5: Digi-Key; Supplier Part Number 5: ITS4880RTR-ND; Supplier 6: Digi-Key; Supplier Part Number 6: ITS4880RCT-ND; Supplier 7: Digi-Key; Supplier Part Number 7: ITS4880RDKR-ND; Halogen-free: available; IL (SCp): 3 A; Packing: Reel; Mounting Technology: Surface Mount; ComponentLink1Description: Manufacturer URL; ComponentLink1URL: http://www.infineon.com/; ComponentLink2Description: Datasheet; ComponentLink2URL: http://www.infineon.com/dgdl/ITS4880R_DS_11.pdf?folderId=db3a304412b407950112b408e8c90004&fileId=db3a304412b407950112b4295fb340cf; ComponentLink3Description: Package Specification; ComponentLink3URL: http://www.infineon.com/dgdl/ITS4880R_DS_11.pdf?folderId=db3a304412b407950112b408e8c90004&fileId=db3a304412b407950112b4295fb340cf&sId=db3a30433db6f09f013dc85930135028
footprint INF-PG-DSO-36-26_N (SOP, 36-Leads, Body 15.9x11mm, Pitch 0.65mm, Thermal Pad 16x6mm, IPC Medium Density)
footprint INF-PG-DSO-36-26_L (SOP, 36-Leads, Body 15.9x11mm, Pitch 0.65mm, Thermal Pad 16x6mm, IPC High Density)
footprint INF-PG-DSO-36-26_M (SOP, 36-Leads, Body 15.9x11mm, Pitch 0.65mm, Thermal Pad 16x6mm, IPC Low Density)
pins: 1 NC "Not connected", 2 NC "Not connected", 3 LS (in) "Enable pin for switching the input-levels to Vbb/2", 4 NC "Not connected", 5 NC "Not connected", 6 IN1 (in) "Input, activates channel 1 in case of logic high signal", 7 IN2 (in) "Input, activates channel 2 in case of logic high signal", 8 IN3 (in) "Input, activates channel 3 in case of logic high signal", 9 IN4 (in) "Input, activates channel 4 in case of logic high signal", 10 IN5 (in) "Input, activates channel 5 in case of logic high signal", 11 IN6 (in) "Input, activates channel 6 in case of logic high signal", 12 IN7 (in) "Input, activates channel 7 in case of logic high signal", 13 IN8 (in) "Input, activates channel 8 in case of logic high signal", 14 NC "Not connected", 15 NC "Not connected", 16 NC "Not connected", 17 NC "Not connected", 18 NC "Not connected", 19 GND (power) "Logic ground", 20 DIAG (out) "Common diagnostic output for overtemperture", 21 OUT8 (power) "Output to the load of channel 8", 22 OUT8 (power) "Output to the load of channel 8", 23 OUT7 (power) "Output to the load of channel 7", 24 OUT7 (power) "Output to the load of channel 7", 25 OUT6 (power) "Output to the load of channel 6", 26 OUT6 (power) "Output to the load of channel 6", 27 OUT5 (power) "Output to the load of channel 5", 28 OUT5 (power) "Output to the load of channel 5", 29 OUT4 (power) "Output to the load of channel 4", 30 OUT4 (power) "Output to the load of channel 4", 31 OUT3 (power) "Output to the load of channel 3", 32 OUT3 (power) "Output to the load of channel 3", 33 OUT2 (power) "Output to the load of channel 2", 34 OUT2 (power) "Output to the load of channel 2", 35 OUT1 (power) "Output to the load of channel 1", 36 OUT1 (power) "Output to the load of channel 1", 37 VBB (power) "Positive power suppiy voltage"

## ITS5215L
designator U?
Smart High-Side Power Switch for Industrial Applications 2 Channels: 2 x 90 mohm Status Feedback, 5.5 to 40 V Operating, -30 to 85 degC, PG-DSO-12-9, Reel, Green; Manufacturer: Infineon; PartNumber: ITS5215L; Channels: 2; Diagnostic: Digital; Green: TRUE; IL (nom)min - all channels active: 2.1 A; IL (nom)min - one channel active: 3.7 A; IL (SC): 15 A; Operating Voltage Range (max): 40 V; Operating Voltage Range (min): 5.5 V; Ptot (max): 3.1 W; RON (max) @ Tj max: 180 mOhm; RON @ 25 degC: 90 mOhm (max); toff (max): 270 us; ton (max): 250 us; DatasheetVersion: Rev. 1.1; PackageVersion: May-07; PackageReference: PG-DSO-12-9; PackageDescription: 12-Pin Plastic (Green) Dual Small Outline Package, 7.5 x 6.4 mm Body, 1 mm Pitch; Supplier 1: Mouser; Supplier Part Number 1: 726-ITS5215L; Supplier 2: Newark; Supplier Part Number 2: 58M7535; Supplier 3: Farnell; Supplier Part Number 3: 1426197; Supplier 4: Farnell; Supplier Part Number 4: 1426197RL; Supplier 5: Digi-Key; Supplier Part Number 5: ITS5215LTR-ND; Supplier 6: Digi-Key; Supplier Part Number 6: ITS5215LCT-ND; Supplier 7: Digi-Key; Supplier Part Number 7: ITS5215LDKR-ND; Halogen-free: available; IL (SCp): 15 A; Load Current (typ): 2.1 A; Packing: Reel; Mounting Technology: Surface Mount; ComponentLink1Description: Manufacturer URL; ComponentLink1URL: http://www.infineon.com/; ComponentLink2Description: Datasheet; ComponentLink2URL: http://www.infineon.com/dgdl/ITS5215L_DS11_20081007.pdf?folderId=db3a304412b407950112b408e8c90004&fileId=db3a304412b407950112b428dba73e98; ComponentLink3Description: Package Specification; ComponentLink3URL: http://www.infineon.com/dgdl/BTS5210L.pdf?folderId=db3a304314dca389011537739e37155f&fileId=db3a304316f112290116f28c05eb7248&sId=db3a30443d67b5ca013d84e4f39f338f
footprint INF-PG-DSO-12-9_N (SOP, 12-Leads, Body 7.5x6.4mm, Pitch 1mm, Thermal Pad 7.9x4.3mm, IPC Medium Density)
footprint INF-PG-DSO-12-9_L (SOP, 12-Leads, Body 7.5x6.4mm, Pitch 1mm, Thermal Pad 7.9x4.3mm, IPC High Density)
footprint INF-PG-DSO-12-9_M (SOP, 12-Leads, Body 7.5x6.4mm, Pitch 1mm, Thermal Pad 7.9x4.3mm, IPC Low Density)
pins: 1 GND (power) "Ground of chip", 2 IN1 (in) "Input 1 activates channel 1 in case of logic high signal", 3 ST1 (oc) "Diagnostic feedback 1 of channel 1 open drain, low on failure", 4 IN2 (in) "Input 2 activates channel 2 in case of logic high signal", 5 ST2 (oc) "Diagnostic feedback 2 of channel 2 open drain, low on failure", 6 VBB (power) "Positive power supply voltage. Design the wiring for the simultaneous max. short circuit currents from channel 1 to 2 and also for low thermal resistance", 7 NC "Not Connected", 8 OUT2 (power) "Output 1 protected high-side power output of channel 1. Design the wiring for the max. short circuit current", 9 NC "Not Connected", 10 OUT1 (power) "Output 2 protected high-side power output of channel 2. Design the wiring for the max. short circuit current", 11 NC "Not Connected", 12 VBB (power) "Positive power supply voltage. Design the wiring for the simultaneous max. short circuit currents from channel 1 to 2 and also for low thermal resistance", 13 VBB "Heat slug"

## ITS42008-SB-D
designator U?
Smart Octal High-Side NMOS-Power Switch, 11 to 45 V Operating, -40 to 125 degC, PG-DSO-36-26, Reel, Green; Manufacturer: Infineon; PartNumber: ITS42008-SB-D; Channels: 8; Diagnostic: Digital; Green: TRUE; IL (nom)min - all channels active: 0.7 A; IL (SC): 1.1 A; IL (SCp): 1.4 A; Operating Voltage Range (max): 45 V; Operating Voltage Range (min): 11 V; Ptot (max): 3.3 W; RON (max) @ Tj max: 320 mOhm; RON @ 25 degC: 200 mOhm (max); toff (max): 150 us; ton (max): 100 us; DatasheetVersion: Rev. 1.0; PackageVersion: Aug-09; PackageReference: PG-DSO-36-26; PackageDescription: 36-Pin Plastic (Green) Dual Small Outline Package, 15.9 x 11 mm Body, 0.65 mm Pitch; Halogen-free: TRUE; IL (nom)min - one channel active: 0.7 A; Load Current (typ): 0.7 A; Packing: Reel; Mounting Technology: Surface Mount; ComponentLink1Description: Manufacturer URL; ComponentLink1URL: http://www.infineon.com/; ComponentLink2Description: Datasheet; ComponentLink2URL: http://www.infineon.com/dgdl/ITS42008-SB-D_01092012S.pdf?folderId=db3a304412b407950112b408e8c90004&fileId=db3a304339dcf4b1013a013e13a7573e; ComponentLink3Description: Package Specification; ComponentLink3URL: http://www.infineon.com/dgdl/ITS4880R_DS_11.pdf?folderId=db3a304412b407950112b408e8c90004&fileId=db3a304412b407950112b4295fb340cf&sId=db3a30433db6f09f013dc85930135028
footprint INF-PG-DSO-36-26_N (SOP, 36-Leads, Body 15.9x11mm, Pitch 0.65mm, Thermal Pad 16x6mm, IPC Medium Density)
footprint INF-PG-DSO-36-26_L (SOP, 36-Leads, Body 15.9x11mm, Pitch 0.65mm, Thermal Pad 16x6mm, IPC High Density)
footprint INF-PG-DSO-36-26_M (SOP, 36-Leads, Body 15.9x11mm, Pitch 0.65mm, Thermal Pad 16x6mm, IPC Low Density)
part A pins: 3 LS (in) "Input level progamming pin; Level: CMOS if LS=L; VS/2 if LS=H", 6 IN1 (in) "Input channel 1, controles the power switch; the powerswitch is ON when IN1=H", 7 IN2 (in) "Input channel 2, controles the power switch; the powerswitch is ON when IN2=H", 8 IN3 (in) "Input channel 3, controles the power switch; the powerswitch is ON when IN3=H", 9 IN4 (in) "Input channel 4, controles the power switch; the powerswitch is ON when IN4=H", 10 IN5 (in) "Input channel 5, controles the power switch; the powerswitch is ON when IN5=H", 11 IN6 (in) "Input channel 6, controles the power switch; the powerswitch is ON when IN6=H", 12 IN7 (in) "Input channel 7, controles the power switch; the powerswitch is ON when IN7=H", 13 IN8 (in) "Input channel 8, controles the power switch; the powerswitch is ON when IN8=H", 19 GND (power) "Logic ground", 20 ST (out) "Status output (common diagnostic output); current source on in case of  overtemperature; integrated pull down resistor to GND", 21 OUT8 (power) "Output to the load of channel 8 (source of the DMOS power switch)", 22 OUT8 (power) "Output to the load of channel 8 (source of the DMOS power switch)", 23 OUT7 (power) "Output to the load of channel 7 (source of the DMOS power switch)", 24 OUT7 (power) "Output to the load of channel 7 (source of the DMOS power switch)", 25 OUT6 (power) "Output to the load of channel 6 (source of the DMOS power switch)", 26 OUT6 (power) "Output to the load of channel 6 (source of the DMOS power switch)", 27 OUT5 (power) "Output to the load of channel 5 (source of the DMOS power switch)", 28 OUT5 (power) "Output to the load of channel 5 (source of the DMOS power switch)", 29 OUT4 (power) "Output to the load of channel 4 (source of the DMOS power switch)", 30 OUT4 (power) "Output to the load of channel 4 (source of the DMOS power switch)", 31 OUT3 (power) "Output to the load of channel 3 (source of the DMOS power switch)", 32 OUT3 (power) "Output to the load of channel 3 (source of the DMOS power switch)", 33 OUT2 (power) "Output to the load of channel 2 (source of the DMOS power switch)", 34 OUT2 (power) "Output to the load of channel 2 (source of the DMOS power switch)", 35 OUT1 (power) "Output to the load of channel 1 (source of the DMOS power switch)", 36 OUT1 (power) "Output to the load of channel 1 (source of the DMOS power switch)", 37 VS (power) "Supply voltage (design the wiring for the maximum short circuit current and also  for low thermal resistance)"
part B pins: 1 NC "Not connected", 2 NC "Not connected", 4 NC "Not connected", 5 NC "Not connected", 14 NC "Not connected", 15 NC "Not connected", 16 NC "Not connected", 17 NC "Not connected", 18 NC "Not connected"